# Altium schematic symbol library Stepdown.SCHLIB: 14 symbols
Pins are listed as number, name and electrical type; pins without a type are passive.

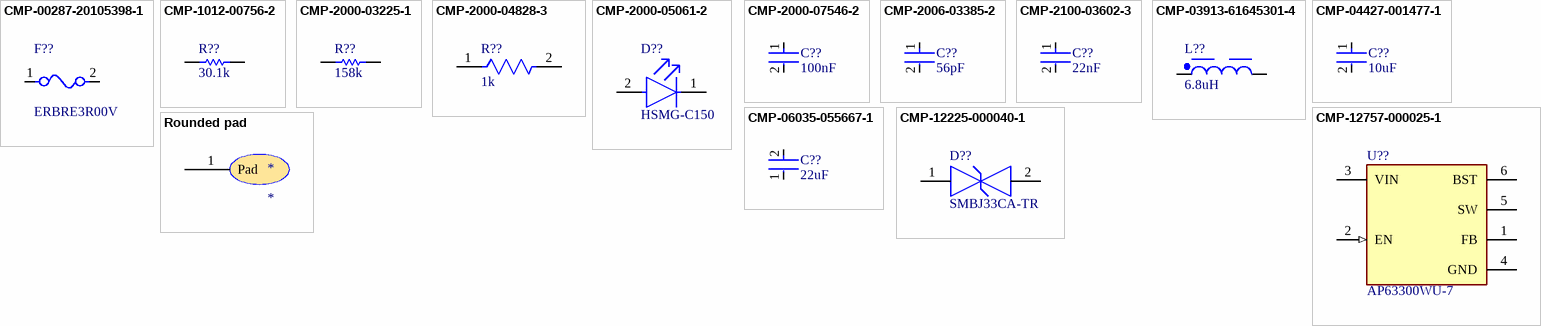
[diagram p0: symbols CMP-00287-20105398-1 to Rounded pad]

## CMP-00287-20105398-1
designator F??, comment ERBRE3R00V
ERBRE3R00V Fuse Chip Fast Acting 3A 32V SMD Solder Pad 0603 1.6 X 0.8 X 0.54mm T/R UL/cUL; Body Material: Alumina; Approvals: UL; Resistance: 33mΩ; Max Operating Temperature: 125°C; REACH SVHC: No SVHC; Case/Package: 0603; Depth: 800µm; Case Code (Metric): 1608; Number of Pins: 2; Height: 640µm; Width: 800µm; Max Voltage Rating (DC): 32V; Case Code (Imperial): 0603; Voltage Rating: 32V; Min Operating Temperature: -40°C; RoHS: Compliant; Fuse Current: 3A; Lifecycle Status: Production; Packaging: Cut Tape; Current: 3A; Mount: Surface Mount; Length: 1.6mm; Current Rating: 3A; Voltage Rating (DC): 32V
footprint FP-ERBRE-MFG
footprint FP-ERBRE-IPC_A
footprint FP-ERBRE-IPC_B
footprint FP-ERBRE-IPC_C
pins: 1, 2

## CMP-1012-00756-2
designator R??, comment 30.1k
Manufacturer: Panasonic; Part Number: ERJ-3EKF1583V
footprint RESC1608X55X30NL15T15 (Chip Resistor, 2-Leads, Body 1.60x0.80mm, IPC Medium Density)
footprint RESC1608X55X30LL15T15 (Chip Resistor, 2-Leads, Body 1.60x0.80mm, IPC High Density)
footprint RESC1608X55X30ML15T15 (Chip Resistor, 2-Leads, Body 1.60x0.80mm, IPC Low Density)
pins: 1, 2
1 alternate drawing of the same symbol

## CMP-2000-03225-1
designator R??, comment 158k
Manufacturer: Vishay Dale; Part Number: CRCW060330K1FKEA
footprint RESC1609X50X30LL10T20 (Chip Resistor, 2-Leads, Body 1.55x0.85mm, IPC High Density)
footprint RESC1609X50X30NL10T20 (Chip Resistor, 2-Leads, Body 1.55x0.85mm, IPC Medium Density)
footprint RESC1609X50X30ML10T20 (Chip Resistor, 2-Leads, Body 1.55x0.85mm, IPC Low Density)
pins: 1, 2
1 alternate drawing of the same symbol

## CMP-2000-04828-3
designator R??, comment 1k
RES 1kΩ 1.00% 0.1W 0603; Voltage Rating: 50V; Power Rating: 100mW; Tolerance: 1%; Temperature Coefficient: 100ppm/°C; Resistance: 1kR; Depth: 0.8mm; Case/Package: 0603; Size Code: 0603; Case Code (Metric): 1608; Height: 0.022inch; Series: AC; Width: 0.031inch; Construction: Rectangular; Length: 0.063inch; Case Code (Imperial): 0603; Package Quantity: 1; RoHS Compliant: Yes; Features: Moisture Resistant; Resistor Type: Thick Film; Max Power Dissipation: 100mW; Packaging: Tape and Reel; Termination: SMD/SMT; Ratings: AEC-Q200; Max Operating Temperature: 155°C; Min Operating Temperature: -55°C; Military Standard: Not; Lead Free: Lead Free; Number of Terminations: 2
footprint FP-AC0603-IPC_B
footprint FP-AC0603-IPC_A
footprint FP-AC0603-MFG
footprint FP-AC0603-IPC_C
pins: 1, 2

## CMP-2000-05061-2
designator D??, comment HSMG-C150
LED GREEN DIFFUSED 1206 SMD; Manufacturer: Broadcom; Led Orientation: Top View; Max Junction Temp: +95°C; Peak Emmision Wavelength: 570nm; Viewing Angle: 170°; Wavelength: 572nm; Reverse Voltage: 5V; Luminous Intensity: 15mcd; Forward Voltage: 2.2V; Power Dissipation: 65mW; Forward Current: 20mA; ComponentLink2Description: Datasheet; Lead Free: Yes; Temperature Range Low: -40°C; Package: HSMG-C150; Digikey Description: LED GREEN DIFFUSED 1206 SMD; Mouser Description: LED Uni-Color Green 570nm 2-Pin Chip LED T/R; Manufacturer Part Number: HSMG-C150; Temperature Range High: +85°C; Device Class L1: Optoelectronics; Colour: Green; Category: Diode; Device Class L3: unset; RoHS: TRUE; Height: 1.2mm; ComponentLink2URL: https://docs.broadcom.com/docs/AV02-0551EN; Device Class L2: LEDs; Automotive: No; Ipc Land Pattern Name: DIOCP320160X55; Octopart: https://octopart.com/hsmg-c150-broadcom-71131304; Temperature: -40°C to +85°C
footprint FP-HSMG-C150-MFG
pins: 1 C, 2 A

## CMP-2000-07546-2
designator C??, comment 100nF
Cap Ceramic 100nF 50V X7R 10% Pad SMD 0603 +125°C Automotive T/R; Weight: 7.1E-05oz; Composition: Ceramic; Max Operating Temperature: 125°C; Termination: SMD/SMT; Dielectric: X7R; Length: 1.6mm; Package Quantity: 1; REACH SVHC: No SVHC; Lead Free: Lead Free; Case Code (Metric): 1608; Min Operating Temperature: -55°C; Packaging: Tape and Reel; Tolerance: 10%; Voltage Rating: 50V; Case Code (Imperial): 0603; Capacitance: 100nF; Case/Package: 0603; Voltage Rating (DC): 50V; Depth: 0.8mm; Radiation Hardening: No; Ratings: AEC-Q200; Mount: Surface Mount; Voltage: 50V; Thickness: 0.035inch; Width: 0.8mm; Height: 0.8mm
footprint FP-CGA3E-0_3-0_1-IPC_A
footprint FP-CGA3E-0_3-0_1-IPC_C
footprint FP-CGA3E-0_3-0_1-IPC_B
footprint FP-CGA3E-0_3-0_1-MFG
pins: 1, 2

## CMP-2006-03385-2
designator C??, comment 56pF
CAP CER 56PF 50V 1% NP0 0603; Manufacturer: KEMET; Manufacturer Part Number: C0603C560F5GACTU; Material: Ceramic; Tolerance: 0.01; Temperature Coefficient: 30ppm/°C; Automotive Grade: Grade 1; Temperature Characteristic: C0G; Capacitance: 56 pF; ComponentLink2Description: Datasheet; Package: C0603C-CF; Lead Free: Yes; Digikey Description: CAP CER 56PF 50V 1% NP0 0603; Mouser Description: Multilayer Ceramic Capacitors MLCC - SMD/SMT 50volts 56pF C0G 1%; Value: 56 pF; Temperature Range High: +125°C; Category: Cap; Temperature Range Low: -55°C; RoHS: TRUE; ComponentLink2URL: https://api.kemet.com/component-edge/download/datasheet/C0603C100J5GACAUTO.pdf; Device Class L1: Passive Components; Device Class L2: Capacitors; Temperature: -55°C to +125°C; Device Class L3: Ceramic Capacitors; Height: 0.87mm; Octopart: https://octopart.com/c0603c560f5gactu-kemet-9143760; Automotive: Yes; Voltage Rating: 50 V
footprint FP-C0603C-CF-MFG
footprint FP-C0603C-CF-IPC_C
footprint FP-C0603C-CF-IPC_B
footprint FP-C0603C-CF-IPC_A
pins: 1, 2

## CMP-2100-03602-3
designator C??, comment 22nF
CAP CER 0.022UF 50V X7R 0603; Dielectric Material: Ceramic; Insulation Resistance: 100GR; Tolerance: 10%; Thickness: 0.035inch; Case/Package: 0603; Packaging: Tape and Reel; Voltage Rating (DC): 50V; Length: 1.6mm; Depth: 0.8mm; Dielectric: X7R; Resistor Type: Ceramic; Min Operating Temperature: -55°C; Number of Pins: 2; Series: CC; Mount: Surface Mount; Max Operating Temperature: 125°C; Capacitance: 22nF; Case Code (Imperial): 0603; Width: 0.031inch; Halogen Free: Halogen Free; Lead Free: Lead Free; Voltage: 50V; RoHS Compliant: Yes; Package Quantity: 1; Height: 0.8mm; REACH SVHC: No SVHC; Voltage Rating: 50V; Case Code (Metric): 1608; Termination: SMD/SMT; Radiation Hardening: No
footprint FP-CC0603-DA-MFG
footprint FP-CC0603-DA-IPC_C
footprint FP-CC0603-DA-IPC_B
footprint FP-CC0603-DA-IPC_A
pins: 1, 2

## CMP-03913-61645301-4
designator L??, comment 6.8uH
74437356068 Power Inductor, 6.8Uh, Shielded, 5.1A Rohs Compliant: Yes; NexarPartId: 61645301; Self Resonant Frequency: 14MHz; Test Frequency: 100kHz; DC Resistance (DCR): 35.5mΩ; Saturation Current: 6.9A; Tolerance: 20%; Inductance: 6.8µH; Core Material: Ferrite; Current Rating: 5.1A; Composition: Wirewound; Min Operating Temperature: -40°C; Shielding: Shielded; Case/Package: Nonstandard; Packaging: Tape & Reel (TR); Ambient Temperature Range Low: -40°C; Max Operating Temperature: 125°C; Length: 9.7mm; RoHS: Compliant; Ambient Temperature Range High: 85°C; Width: 8.5mm; Mount: Surface Mount; Height: 3mm; Height - Seated (Max): 2.9972mm
footprint WE-LHMI_8030 (Power Inductor, 220Nh, Shielded, 20A Rohs Compliant: Yes)
pins: 1, 2

## CMP-04427-001477-1
designator C??, comment 10uF
General Purpose Ceramic Capacitor, 2220, 10uF, 10%, X7R, 15%, 50V; Dissipation Factor: 2.5%; Tolerance: 10%; Depth: 5mm; Thickness: 0.11inch; Construction: Flat; REACH SVHC: No SVHC; Length: 5.7mm; Voltage Rating (DC): 50V; Contact Plating: Tin; Capacitance: 10uF; Radiation Hardening: No; Packaging: Tape and Reel; Height: 2.79mm; Width: 0.197inch; Dielectric: X7R; Case Code (Imperial): 2220; Package Quantity: 500; Max Operating Temperature: 125°C; Case/Package: 2220; Voltage: 50V; Voltage Rating: 50V; Number of Pins: 2; Case Code (Metric): 5750; Lead Free: Lead Free; Series: Standard; Termination: SMD/SMT; RoHS Compliant: Yes; Mount: Surface Mount; Min Operating Temperature: -55°C
footprint FP-2220-L_5_7_0_5-W_5_0_4-IPC_A
footprint FP-2220-L_5_7_0_5-W_5_0_4-IPC_B
footprint FP-2220-L_5_7_0_5-W_5_0_4-MFG
footprint FP-2220-L_5_7_0_5-W_5_0_4-IPC_C
pins: 1, 2

## CMP-06035-055667-1
designator C??, comment 22uF
Ceramic Capacitor for Automotive 22uF ±10% 25VDC X8L 1210 Embossed T/R
footprint FP-GCM32E-0_35-e0_3_1_275-MFG
footprint FP-GCM32E-0_35-e0_3_1_275-IPC_A
footprint FP-GCM32E-0_35-e0_3_1_275-IPC_C
footprint FP-GCM32E-0_35-e0_3_1_275-IPC_B
pins: 1, 2

## CMP-12225-000040-1
designator D??, comment SMBJ33CA-TR
TVS DIODE 33V 69.7V SMB; Manufacturer: STMicroelectronics; Direction: Bidirectional; Peak Pulse Current: 11.8A; Peak Pulse Power: 600W; Clamping Voltage: 53.3V; Breakdown Voltage: 36.7V; Number Of Channels: 1; Standoff Height: 0.05mm; Max Junction Temp: +150°C; Lead Free: Yes; Device Class L1: Circuit Protection; Device Class L3: unset; Mouser Description: TVS Diodes - Transient Voltage Suppressors 600W 33V Bidirect; Device Class L2: TVS Diodes; Temperature Range High: +150°C; Temperature: -55°C to +150°C; Temperature Range Low: -55°C; Octopart: https://octopart.com/smbj33ca-tr-stmicroelectronics-347069; Manufacturer Part Number: SMBJ33CA-TR; Automotive: No; ComponentLink2URL: https://www.st.com/resource/en/datasheet/smbj.pdf; RoHS: TRUE; Package: SMB-CA; Category: Diode; ComponentLink2Description: Datasheet; Height: 2.65mm; Reverse Standoff Voltage: 33V; Digikey Description: TVS DIODE 33V 69.7V SMB
footprint FP-SMB-CA-MFG
pins: 1, 2

## CMP-12757-000025-1
designator U??, comment AP63300WU-7
DCDC CONV HV BUCK TSOT26
footprint FP-TSOT26-IPC_A
footprint FP-TSOT26-IPC_B
footprint FP-TSOT26-MFG
footprint FP-TSOT26-IPC_C
pins: 1 FB, 2 EN (in), 3 VIN (power), 4 GND (power), 5 SW, 6 BST

## Rounded pad
designator *
footprint PCBComponent_1
pins: 1 Pad